# EAGLE library part EFM32GG11B8*L120 (library EFM32)
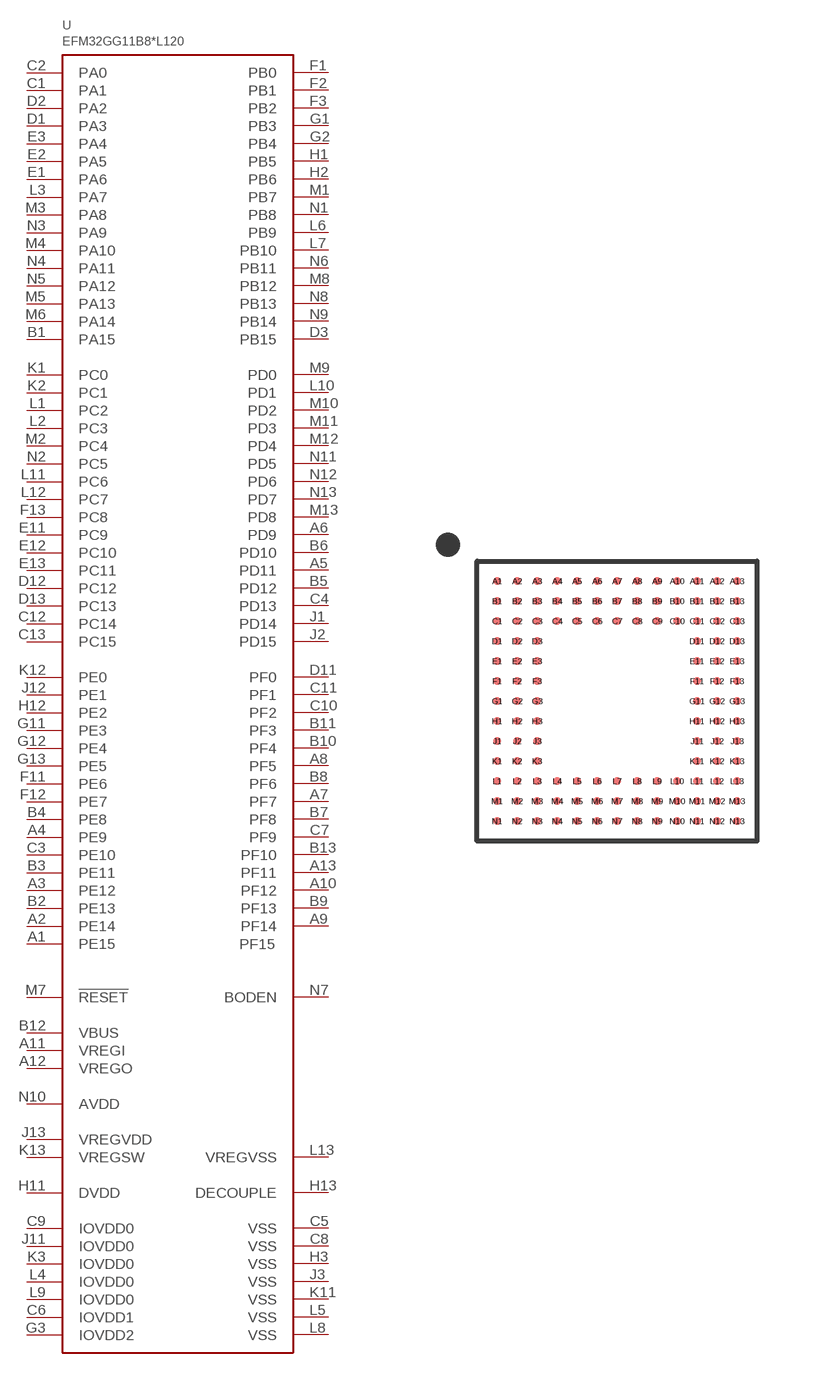
[diagram p21: symbol with the pads of BGA120; footprint BGA120]

Designator prefix U

## EFM32GG11B820F2048GL120, EFM32GG11B820F2048IL120, EFM32GG11B840F1024GL120, EFM32GG11B840F1024IL120  [BGA120]
A1  PE15
A2  PE14
A3  PE12
A4  PE9
A5  PD11
A6  PD9
A7  PF7
A8  PF5
A9  PF14
A10  PF12
A11  VREGI
A12  VREGO
A13  PF11
B1  PA15
B2  PE13
B3  PE11
B4  PE8
B5  PD12
B6  PD10
B7  PF8
B8  PF6
B9  PF13
B10  PF4
B11  PF3
B12  VBUS
B13  PF10
C1  PA1
C2  PA0
C3  PE10
C4  PD13
C5  VSS
C6  IOVDD1
C7  PF9
C8  VSS
C9  IOVDD0
C10  PF2
C11  PF1
C12  PC14
C13  PC15
D1  PA3
D2  PA2
D3  PB15
D11  PF0
D12  PC12
D13  PC13
E1  PA6
E2  PA5
E3  PA4
E11  PC9
E12  PC10
E13  PC11
F1  PB0
F2  PB1
F3  PB2
F11  PE6
F12  PE7
F13  PC8
G1  PB3
G2  PB4
G3  IOVDD2
G11  PE3
G12  PE4
G13  PE5
H1  PB5
H2  PB6
H3  VSS
H11  DVDD
H12  PE2
H13  DECOUPLE
J1  PD14
J2  PD15
J3  VSS
J11  IOVDD0
J12  PE1
J13  VREGVDD
K1  PC0
K2  PC1
K3  IOVDD0
K11  VSS
K12  PE0
K13  VREGSW
L1  PC2
L2  PC3
L3  PA7
L4  IOVDD0
L5  VSS
L6  PB9
L7  PB10
L8  VSS
L9  IOVDD0
L10  PD1
L11  PC6
L12  PC7
L13  VREGVSS
M1  PB7
M2  PC4
M3  PA8
M4  PA10
M5  PA13
M6  PA14
M7  !RESET
M8  PB12
M9  PD0
M10  PD2
M11  PD3
M12  PD4
M13  PD8
N1  PB8
N2  PC5
N3  PA9
N4  PA11
N5  PA12
N6  PB11
N7  BODEN
N8  PB13
N9  PB14
N10  AVDD
N11  PD5
N12  PD6
N13  PD7

## Footprint BGA120 (pad centres in mm)
smd 0.2 x 0.2: A1 -3,3; A2 -2.5,3; A3 -2,3; A4 -1.5,3; A5 -1,3; A6 -0.5,3; A7 0,3; A8 0.5,3; A9 1,3; A10 1.5,3; A11 2,3; A12 2.5,3; A13 3,3; B1 -3,2.5; B2 -2.5,2.5; B3 -2,2.5; B4 -1.5,2.5; B5 -1,2.5; B6 -0.5,2.5; B7 0,2.5; B8 0.5,2.5; B9 1,2.5; B10 1.5,2.5; B11 2,2.5; B12 2.5,2.5; B13 3,2.5; C1 -3,2; C2 -2.5,2; C3 -2,2; C4 -1.5,2; C5 -1,2; C6 -0.5,2; C7 0,2; C8 0.5,2; C9 1,2; C10 1.5,2; C11 2,2; C12 2.5,2; C13 3,2; D1 -3,1.5; D2 -2.5,1.5; D3 -2,1.5; D11 2,1.5; D12 2.5,1.5; D13 3,1.5; E1 -3,1; E2 -2.5,1; E3 -2,1; E11 2,1; E12 2.5,1; E13 3,1; F1 -3,0.5; F2 -2.5,0.5; F3 -2,0.5; F11 2,0.5; F12 2.5,0.5; F13 3,0.5; G1 -3,0; G2 -2.5,0; G3 -2,0; G11 2,0; G12 2.5,0; G13 3,0; H1 -3,-0.5; H2 -2.5,-0.5; H3 -2,-0.5; H11 2,-0.5; H12 2.5,-0.5; H13 3,-0.5; J1 -3,-1; J2 -2.5,-1; J3 -2,-1; J11 2,-1; J12 2.5,-1; J13 3,-1; K1 -3,-1.5; K2 -2.5,-1.5; K3 -2,-1.5; K11 2,-1.5; K12 2.5,-1.5; K13 3,-1.5; L1 -3,-2; L2 -2.5,-2; L3 -2,-2; L4 -1.5,-2; L5 -1,-2; L6 -0.5,-2; L7 0,-2; L8 0.5,-2; L9 1,-2; L10 1.5,-2; L11 2,-2; L12 2.5,-2; L13 3,-2; M1 -3,-2.5; M2 -2.5,-2.5; M3 -2,-2.5; M4 -1.5,-2.5; M5 -1,-2.5; M6 -0.5,-2.5; M7 0,-2.5; M8 0.5,-2.5; M9 1,-2.5; M10 1.5,-2.5; M11 2,-2.5; M12 2.5,-2.5; M13 3,-2.5; N1 -3,-3; N2 -2.5,-3; N3 -2,-3; N4 -1.5,-3; N5 -1,-3; N6 -0.5,-3; N7 0,-3; N8 0.5,-3; N9 1,-3; N10 1.5,-3; N11 2,-3; N12 2.5,-3; N13 3,-3